# Altium integrated library FRC2512F2402TS.IntLib: 1 symbol
Pins are listed as number, name and electrical type; pins without a type are passive.

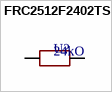
[diagram p0: symbol FRC2512F2402TS]

## FRC2512F2402TS
designator U?  value 24kO  (hidden comment: FRC2512F2402TS)
Chip Resistor - Surface Mount. -55C~+155C 1W 200V 24kohm Thick Film Resistor +/-1% +/-100ppm/C 2512 Chip Resistor - Surface Mount ROHS; Manufacturer: FOJAN; Component Type: Integrated Circuits; Design Item ID: FRC2512F2402TS; JLCPCB Part #: C2960876; Manufacturer Part Number: FRC2512F2402TS
footprint FRC2512F2402TS (R2512)
pins: 1, 2